# Altium schematic symbol library Schlib.SchLib: 6 symbols
Pins are listed as number, name and electrical type; pins without a type are passive.

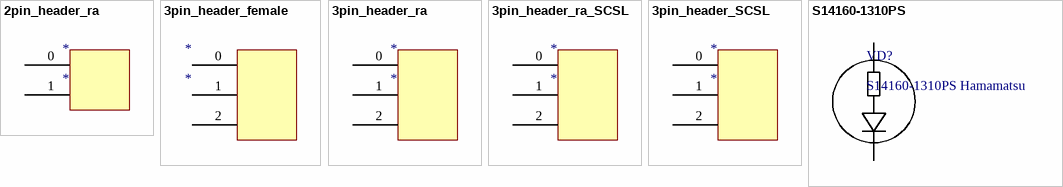
[diagram p0: symbols 2pin_header_ra to S14160-1310PS]

## 2pin_header_ra
designator *
footprint 2pin_header
pins: 0, 1

## 3pin_header_female
designator *
footprint 3pin_header - female
pins: 0, 1, 2

## 3pin_header_ra
designator *
footprint 3pin_header
pins: 0, 1, 2

## 3pin_header_ra_SCSL
designator *
footprint 3pin_header_SCSL_FEMALE
pins: 0, 1, 2

## 3pin_header_SCSL
designator *
footprint 3pin_header - SCSL
pins: 0, 1, 2

## S14160-1310PS
designator VD?, comment S14160-1310PS Hamamatsu
Name: S14160-1310PS; Manufacturer: Hamamatsu
footprint S14160-1310PS
pins: 2 C, 3 A